# Altium footprint library Rangefinder.PcbLib: 27 footprints (part 2 of 2)
Each footprint in its own frame and in the unit in brackets; x right, y up, seen from the top. Pads: shape width x height; smd on the part's side, far side on the other; paste and mask are expansions set on the pad; w line width, h text height; cw(c..) or ccw(c..) is an arc to the next point about the centre after c.
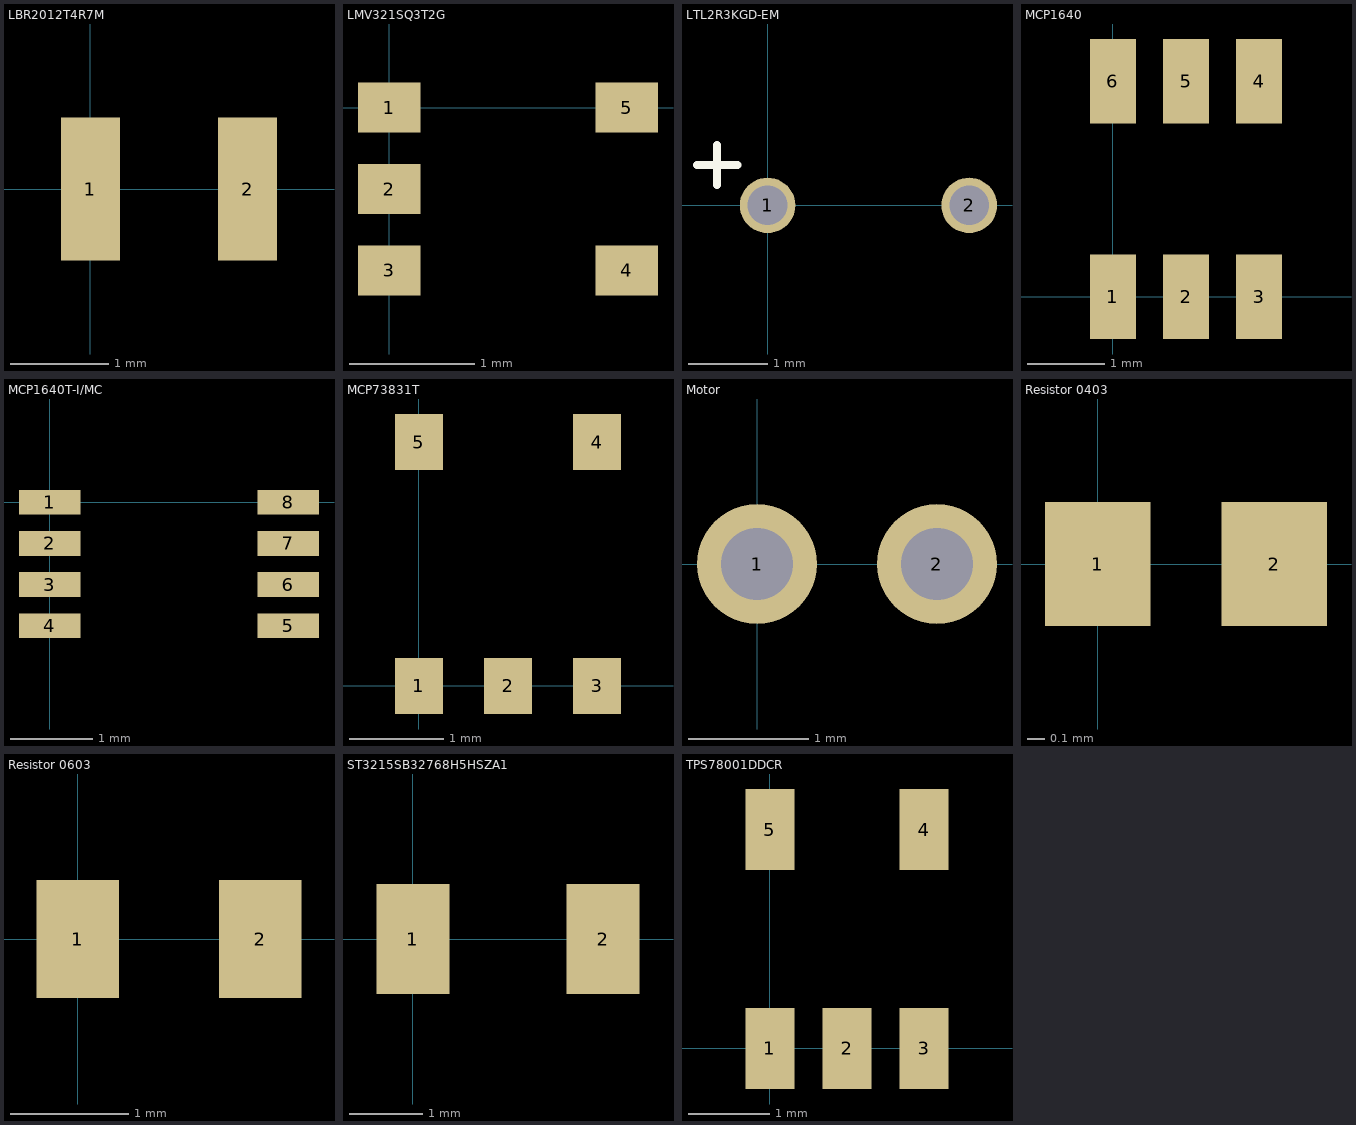
[diagram p1: the footprints below, top view; thin cyan lines are the x and y axes]

## LBR2012T4R7M [mm]
pads (2):
  rect 0.6x1.45 smd: 1(0,0) 2(1.6,0)

## LMV321SQ3T2G [mm]
pads (5):
  rect 0.5x0.4 smd: 1(0,0) 2(0,-0.65) 3(0,-1.3) 4(1.9,-1.3) 5(1.9,0)

## LTL2R3KGD-EM [mm]
pads (2):
  round 0.7 hole 0.5: 1(0,0) 2(2.54,0)
Top Overlay:
  lines w0.102: -0.889,0.508 -0.381,0.508 ; -0.635,0.254 -0.635,0.762

## MCP1640 [mm]
pads (6):
  rect 0.6x1.1 smd: 1(0,0) 2(0.95,0) 3(1.9,0) 4(1.9,2.8) 5(0.95,2.8) 6(0,2.8)

## MCP1640T-I/MC [mm]
pads (8):
  rect 0.75x0.3 smd: 1(0,0) 2(0,-0.5) 3(0,-1) 4(0,-1.5) 5(2.9,-1.5) 6(2.9,-1) 7(2.9,-0.5) 8(2.9,0)

## MCP73831T [mm]
pads (5):
  rect 0.51x0.6 smd: 1(0,0) 2(0.95,0) 3(1.9,0) 4(1.9,2.6) 5(0,2.6)

## Motor [mm]
pads (2):
  round 1 hole 0.6: 1(0,0) 2(1.5,0)

## Resistor 0403 [mm]
pads (2):
  rect 0.6x0.7 smd: 1(0,0) 2(1,0)

## Resistor 0603 [mm]
pads (2):
  rect 0.7x1 smd: 1(0,0) 2(1.55,0)

## ST3215SB32768H5HSZA1 [mm]
pads (2):
  rect 1x1.5 smd: 1(0,0) 2(2.6,0)

## TPS78001DDCR [mm]
pads (5):
  rect 0.6x1 smd: 1(0,0) 2(0.95,0) 3(1.9,0) 4(1.9,2.7) 5(0,2.7)